# Altium schematic symbol library buffer.SchLib: 1 symbol
Pins are listed as number, name and electrical type; pins without a type are passive.

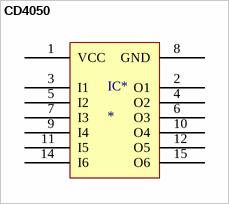
[diagram p0: symbol CD4050]

## CD4050
designator IC*
footprint DIP16
pins: 1 VCC, 2 O1, 3 I1, 4 O2, 5 I2, 6 O3, 7 I3, 8 GND, 9 I4, 10 O4, 11 I5, 12 O5, 14 I6, 15 O6